# EAGLE library part DRV8833 (library SobieskiSat2)
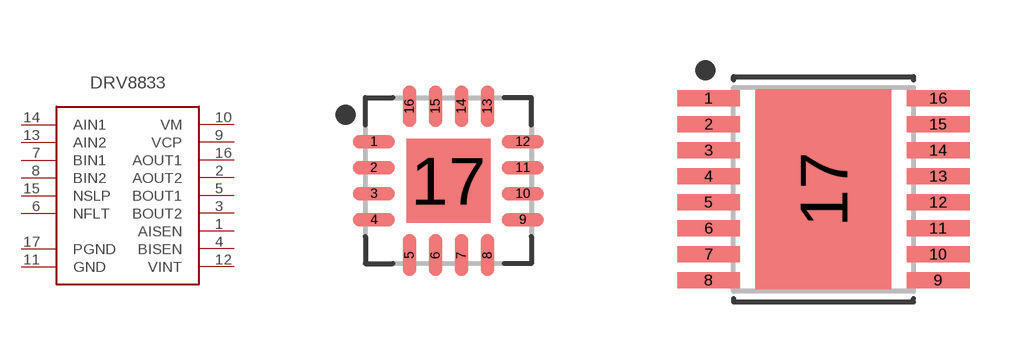
[diagram p15: symbol with the pads of QFN65P400X400X80-17T210N; footprints QFN65P400X400X80-17T210N, SOP65P640X120-17T340X500N]

Designator prefix -

## DRV8833QFN  [QFN65P400X400X80-17T210N]
1  AISEN
2  AOUT2
3  BOUT2
4  BISEN
5  BOUT1
6  NFLT
7  BIN1
8  BIN2
9  VCP
10  VM
11  GND
12  VINT
13  AIN2
14  AIN1
15  NSLP
16  AOUT1
17  PGND

## DRV8833SOP  [SOP65P640X120-17T340X500N]
1  NSLP
2  AOUT1
3  AISEN
4  AOUT2
5  BOUT2
6  BISEN
7  BOUT1
8  NFLT
9  BIN1
10  BIN2
11  VCP
12  VM
13  GND
14  VINT
15  AIN2
16  AIN1
17  PGND

## Footprint QFN65P400X400X80-17T210N (pad centres in mm)
16-QFN, 0.65 mm pitch, 4.00 X 4.00 X 0.80 mm body, 2.10 X 2.10 mm thermal pad 16-pin QFN package with 0.65 mm pitch with body size 4.00 X 4.00 X 0.80 mm and thermal pad size 2.10 X 2.10 mm
smd 1.046 x 0.337: 1 -1.862,0.975; 2 -1.862,0.325; 3 -1.862,-0.325; 4 -1.862,-0.975; 9 1.862,-0.975; 10 1.862,-0.325; 11 1.862,0.325; 12 1.862,0.975
smd 0.337 x 1.046: 5 -0.975,-1.862; 6 -0.325,-1.862; 7 0.325,-1.862; 8 0.975,-1.862; 13 0.975,1.862; 14 0.325,1.862; 15 -0.325,1.862; 16 -0.975,1.862
smd 2.1 x 2.1: 17 0,0

## Footprint SOP65P640X120-17T340X500N (pad centres in mm)
16-SOP, 0.65 mm pitch, 6.40 mm span, 5.00 X 4.40 X 1.20 mm body, 5.00 X 3.40 mm thermal pad 16-pin SOP package with 0.65 mm pitch, 6.40 mm span with body size 5.00 X 4.40 X 1.20 mm and thermal pad size 5.00 X 3.40 mm
smd 1.572 x 0.407: 1 -2.872,2.275; 2 -2.872,1.625; 3 -2.872,0.975; 4 -2.872,0.325; 5 -2.872,-0.325; 6 -2.872,-0.975; 7 -2.872,-1.625; 8 -2.872,-2.275; 9 2.872,-2.275; 10 2.872,-1.625; 11 2.872,-0.975; 12 2.872,-0.325; 13 2.872,0.325; 14 2.872,0.975; 15 2.872,1.625; 16 2.872,2.275
smd 3.4 x 5: 17 0,0